# Altium integrated library 282856-3.IntLib: 1 symbol
Pins are listed as number, name and electrical type; pins without a type are passive.

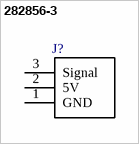
[diagram p0: symbol 282856-3]

## 282856-3
designator J?  (value not drawn)
TERMI-BLOK PCB MOUNT 3P; MF: TE Connectivity; MP: 282856-3; SnapEDA_Link: https://www.snapeda.com/parts/282856-3/TE%20Connectivity%20AMP%20Connectors/view-part/2383467/?ref=snap; EU_RoHS_Compliance: Compliant with Exemptions; TE_purchase_URL: https://www.te.com/usa-en/product-282856-3.html?te_bu=Cor&te_type=disp&te_campaign=seda_glo_cor-seda-global-disp-prtnr-fy19-seda-model-bom-cta_sma-317_1&elqCampaignId=32493; Package: None; Digi-Key_Part_Number: A98356-ND; Digi-Key_Purchase_URL: https://www.digikey.com/product-detail/en/te-connectivity-amp-connectors/282856-3/A98356-ND/1131587?utm_source=snapeda&utm_medium=aggregator&utm_campaign=symbol; Value: *
footprint *TE_282856-3
pins: 1 GND, 2 5V, 3 Signal